# Altium schematic symbol library Schlib_FTDI.SchLib: 4 symbols
Pins are listed as number, name and electrical type; pins without a type are passive.

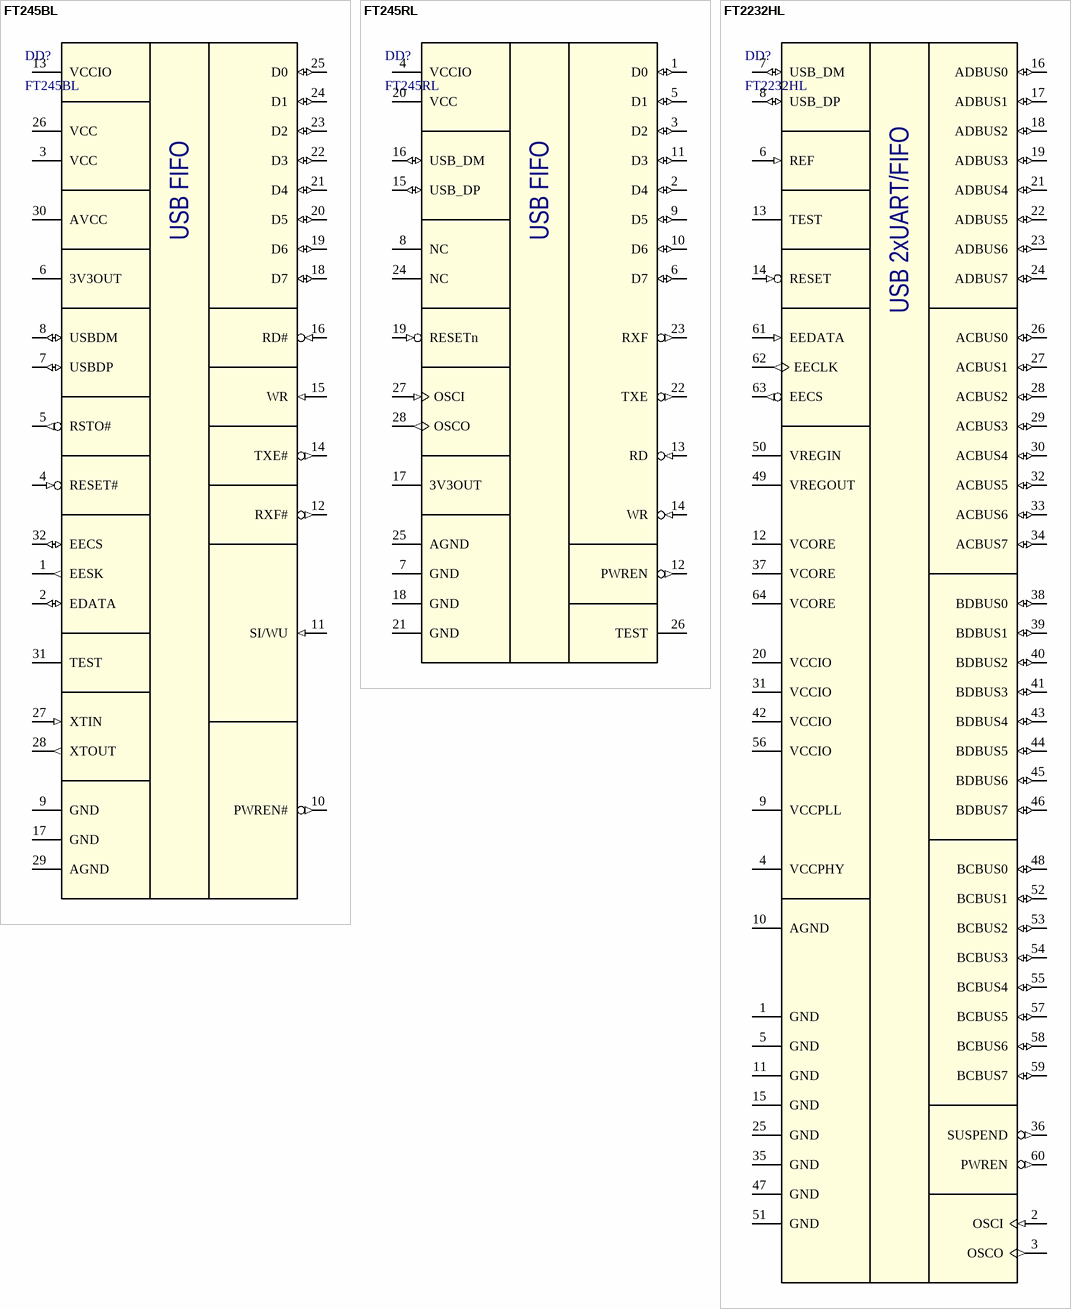
[diagram p0: symbols FT245BL to FT2232HL]

## FT245BL
designator DD?
USB to parallel FIFO interface; Manufacturer: Future Technology Devices International Ltd.; Package: LQFP-32; Part Nubmer: FT245BL
footprint LQFP-32 (TQFP, 32-Leads, Body 7.00x7.00mm, Pitch 0.80mm, IPC Medium Density)
pins: 1 EESK (out), 2 EDATA (io), 3 VCC (power), 4 RESET# (in), 5 RSTO# (out), 6 3V3OUT (power), 7 USBDP (io), 8 USBDM (io), 9 GND (power), 10 PWREN# (out), 11 SI/WU (in), 12 RXF# (out), 13 VCCIO (power), 14 TXE# (out), 15 WR (in), 16 RD# (in), 17 GND (power), 18 D7 (io), 19 D6 (io), 20 D5 (io), 21 D4 (io), 22 D3 (io), 23 D2 (io), 24 D1 (io), 25 D0 (io), 26 VCC (power), 27 XTIN (in), 28 XTOUT (out), 29 AGND (power), 30 AVCC (power), 31 TEST (hiz), 32 EECS (io)
text: USB FIFO

## FT245RL
designator DD?
USB to parallel FIFO interface; Manufacturer: Future Technology Devices International Ltd.; Package: SSOP28; Part Nubmer: FT245RL
footprint SSOP-28 (SSOP, 28-Leads, Body 10,20x5,30mm, Pitch 0,65mm, IPC Medium Density)
pins: 1 D0 (io), 2 D4 (io), 3 D2 (io), 4 VCCIO (power), 5 D1 (io), 6 D7 (io), 7 GND (power), 8 NC, 9 D5 (io), 10 D6 (io), 11 D3 (io), 12 PWREN (out), 13 RD (in), 14 WR (in), 15 USB_DP (io), 16 USB_DM (io), 17 3V3OUT (power), 18 GND (power), 19 RESETn (in), 20 VCC (power), 21 GND (power), 22 TXE (out), 23 RXF (out), 24 NC, 25 AGND (power), 26 TEST, 27 OSCI (in), 28 OSCO (out)
text: USB FIFO

## FT2232HL
designator DD?
Dual High Speed USB to Multipurpose UART/FIFO IC; Manufacturer: Future Technology Devices International Ltd.; Package: LQFP-64; Part Nubmer: FT2232HL
footprint LQFP-64 (LQFP-64 package with 0.5mm pitch)
pins: 1 GND (power), 2 OSCI (in), 3 OSCO (out), 4 VCCPHY (power), 5 GND (power), 6 REF (in), 7 USB_DM (io), 8 USB_DP (io), 9 VCCPLL (power), 10 AGND (power), 11 GND (power), 12 VCORE (power), 13 TEST, 14 RESET (in), 15 GND (power), 16 ADBUS0 (io), 17 ADBUS1 (io), 18 ADBUS2 (io), 19 ADBUS3 (io), 20 VCCIO (power), 21 ADBUS4 (io), 22 ADBUS5 (io), 23 ADBUS6 (io), 24 ADBUS7 (io), 25 GND (power), 26 ACBUS0 (io), 27 ACBUS1 (io), 28 ACBUS2 (io), 29 ACBUS3 (io), 30 ACBUS4 (io), 31 VCCIO (power), 32 ACBUS5 (io), 33 ACBUS6 (io), 34 ACBUS7 (io), 35 GND (power), 36 SUSPEND (out), 37 VCORE (power), 38 BDBUS0 (io), 39 BDBUS1 (io), 40 BDBUS2 (io), 41 BDBUS3 (io), 42 VCCIO (power), 43 BDBUS4 (io), 44 BDBUS5 (io), 45 BDBUS6 (io), 46 BDBUS7 (io), 47 GND (power), 48 BCBUS0 (io), 49 VREGOUT (power), 50 VREGIN (power), 51 GND (power), 52 BCBUS1 (io), 53 BCBUS2 (io), 54 BCBUS3 (io), 55 BCBUS4 (io), 56 VCCIO (power), 57 BCBUS5 (io), 58 BCBUS6 (io), 59 BCBUS7 (io), 60 PWREN (out), 61 EEDATA (in), 62 EECLK (out), 63 EECS (out), 64 VCORE (power)
text: USB 2xUART/FIFO

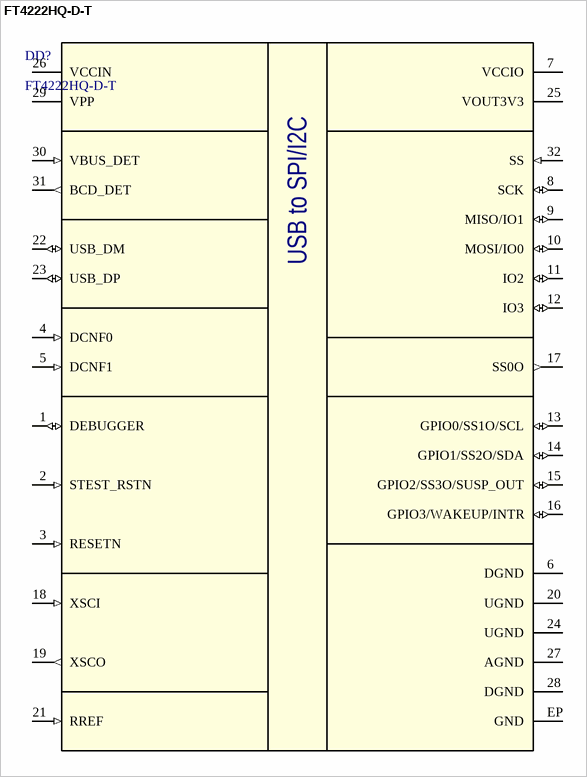
[diagram p1: symbol FT4222HQ-D-T]

## FT4222HQ-D-T
designator DD?
USB2.0 to QuadSPI/I2C Bridge IC; Manufacturer: Future Technology Devices International Ltd.; Package: VQFN-32; Part Nubmer: FT4222HQ-D-T
footprint QFN32 (QFN, 32-Leads, Body 5.00x5.00mm, Pitch 0.50mm, Thermal Pad 3.50x3.50mm, IPC Medium Density)
pins: 1 DEBUGGER (io), 2 STEST_RSTN (in), 3 RESETN (in), 4 DCNF0 (in), 5 DCNF1 (in), 6 DGND (power), 7 VCCIO (power), 8 SCK (io), 9 MISO/IO1 (io), 10 MOSI/IO0 (io), 11 IO2 (io), 12 IO3 (io), 13 GPIO0/SS1O/SCL (io), 14 GPIO1/SS2O/SDA (io), 15 GPIO2/SS3O/SUSP_OUT (io), 16 GPIO3/WAKEUP/INTR (io), 17 SS0O (out), 18 XSCI (in), 19 XSCO (out), 20 UGND (power), 21 RREF (in), 22 USB_DM (io), 23 USB_DP (io), 24 UGND (power), 25 VOUT3V3 (power), 26 VCCIN (power), 27 AGND (power), 28 DGND (power), 29 VPP (power), 30 VBUS_DET (in), 31 BCD_DET (out), 32 SS (in), EP GND (power)
text: USB to SPI/I2C